# EAGLE library part 128240D (library hybridpi-connector)
ZIF Connector for 128x240 Monochrome Graphic LCD Datasheet: 128249D <https://www.displaytech-us.com/sites/default/files/display-data-sheet/128240D%20series-v12.pdf> Connector: SEA8056-36 <https://www.displaytech-us.com/sites/default/files/zif-connector/SEAComp%200.5mm%20ZIF%20Connector%20for%20LCD_1.pdf>
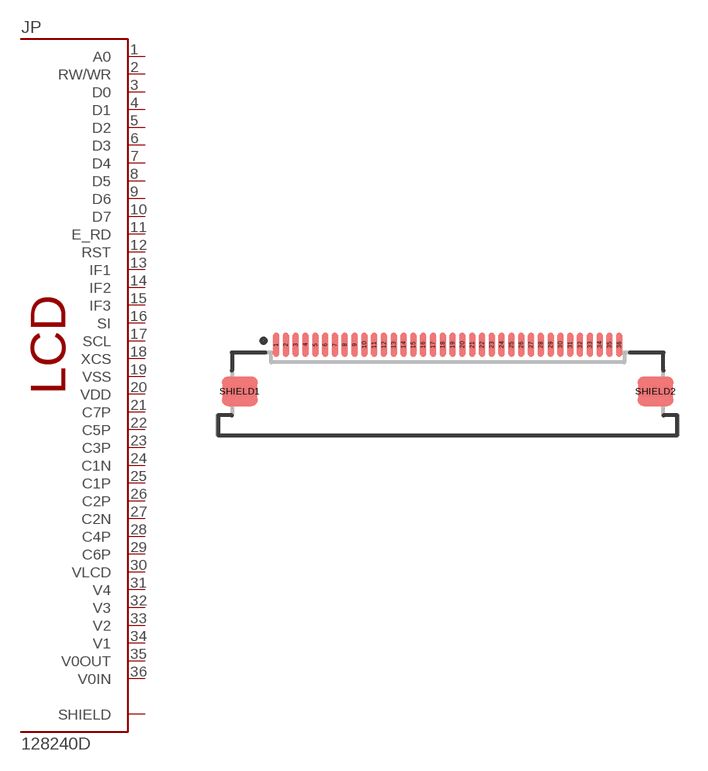
[diagram p2: symbol with the pads of 128240D; footprint 128240D]

Designator prefix JP

## 128240D (EAGLEUP: 128240D_CON; VENDOR: MOUSER; VENDOR_PN: 758-SEA8056-36)  [128240D]
1  A0
2  RW/WR
3  D0
4  D1
5  D2
6  D3
7  D4
8  D5
9  D6
10  D7
11  E_RD
12  RST
13  IF1
14  IF2
15  IF3
16  SI
17  SCL
18  XCS
19  VSS
20  VDD
21  C7P
22  C5P
23  C3P
24  C1N
25  C1P
26  C2P
27  C2N
28  C4P
29  C6P
30  VLCD
31  V4
32  V3
33  V2
34  V1
35  V0OUT
36  V0IN
SHIELD1  SHIELD
SHIELD2  SHIELD

## Footprint 128240D (pad centres in mm)
smd 0.3 x 1.25: 1 -8.75,0; 2 -8.25,0; 3 -7.75,0; 4 -7.25,0; 5 -6.75,0; 6 -6.25,0; 7 -5.75,0; 8 -5.25,0; 9 -4.75,0; 10 -4.25,0; 11 -3.75,0; 12 -3.25,0; 13 -2.75,0; 14 -2.25,0; 15 -1.75,0; 16 -1.25,0; 17 -0.75,0; 18 -0.25,0; 19 0.25,0; 20 0.75,0; 21 1.25,0; 22 1.75,0; 23 2.25,0; 24 2.75,0; 25 3.25,0; 26 3.75,0; 27 4.25,0; 28 4.75,0; 29 5.25,0; 30 5.75,0; 31 6.25,0; 32 6.75,0; 33 7.25,0; 34 7.75,0; 35 8.25,0; 36 8.75,0
smd 1.8 x 1.5: SHIELD1 -10.6,-2.375; SHIELD2 10.6,-2.375